# Altium integrated library SumWkshop.IntLib: 10 symbols
Pins are listed as number, name and electrical type; pins without a type are passive.

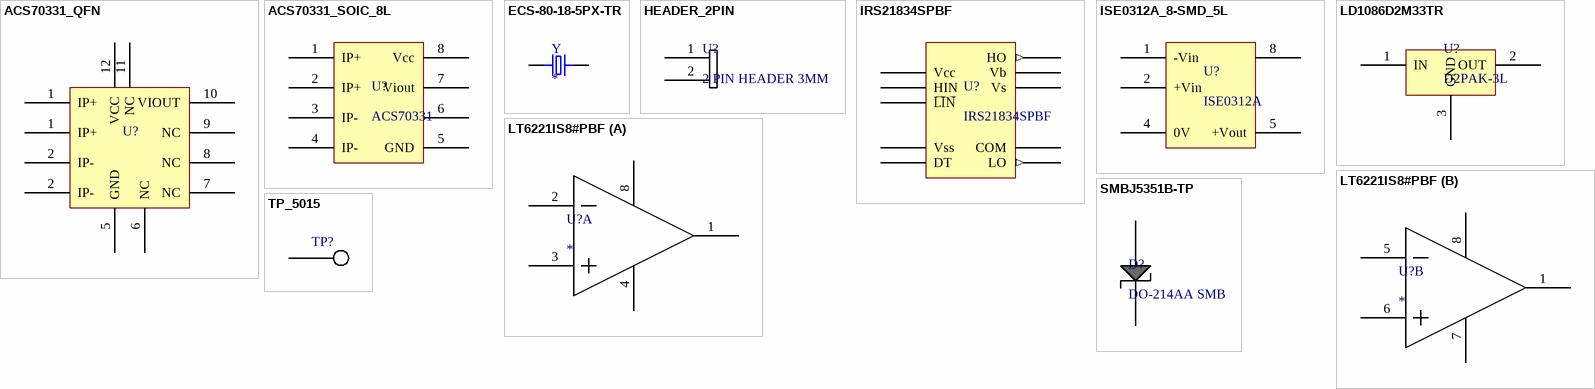
[diagram p0: symbols ACS70331_QFN to TP_5015]

## ACS70331_QFN
designator U?, comment ACS70331EESATR-005U3  (value not drawn)
HIGH SENSITIVITY, 1 MHZ, GMR-BAS
footprint ACS70331_12QFN (HIGH SENSITIVITY, 1 MHZ, GMR-BAS)
pins: 1 IP+, 1 IP+, 2 IP-, 2 IP-, 5 GND, 6 NC, 7 NC, 8 NC, 9 NC, 10 VIOUT, 11 NC, 12 VCC

## ACS70331_SOIC_8L
designator U?, comment ACS70331
HIGH SENSITIVITY, GMR-BASED CURR
footprint ACS70331 (8-SOIC model; 8 leads)
pins: 1 IP+, 2 IP+, 3 IP-, 4 IP-, 5 GND, 6, 7 Viout, 8 Vcc

## ECS-80-18-5PX-TR
designator Y
CRYSTAL 8.0000MHZ 18PF SMD; MP: ECS-80-18-5PX-TR; MF: ECS Inc.; SnapEDA_Link: https://www.snapeda.com/parts/ECS-80-18-5PX-TR/ECS%20Inc./view-part/470513/?ref=snap; Digi-Key_Purchase_URL: https://www.digikey.com/product-detail/en/ecs-inc/ECS-80-18-5PX-TR/XC1271CT-ND/827735?utm_source=snapeda&utm_medium=aggregator&utm_campaign=symbol; Digi-Key_Part_Number: XC1271CT-ND; Value: *; Package: HC49/US ECS International
footprint XTAL_ECS-80-18-5PX-TR
pins: 1, 2

## HEADER_2PIN
designator U?, comment 2 PIN HEADER 3MM
3MM HOLES
footprint 3mm_holes
pins: 1, 2

## IRS21834SPBF
designator U?
IC GATE DRVR HALF-BRIDGE 14SOIC
footprint SOIC127P600X175-14N (SOIC, 14-Leads, Body 8.65x3.90mm, Pitch 1.27mm, IPC Medium Density)
pins: 1 HIN, 2 L̅I̅N̅, 3 Vss (power), 4 DT, 5 COM (power), 6 LO (out), 7 Vcc (power), 11 Vs (power), 12 HO (out), 13 Vb (power)

## ISE0312A_8-SMD_5L
designator U?, comment ISE0312A
DC DC CONVERTER 3.3-12V 1W
footprint ISE0312A (8-SMD model; 5 leads)
pins: 1 -Vin, 2 +Vin, 4 0V, 5 +Vout, 8

## LD1086D2M33TR
designator U?, comment D2PAK-3L
IC REG LINEAR 3.3V 1.5A D2PAK-3
footprint D2PAK-3L
pins: 1 IN, 2 OUT, 3 GND

## LT6221IS8#PBF
designator U?
IC OPAMP GP 2 CIRCUIT 8SO
footprint SOIC8_NARROW
part A pins: 1, 2, 3, 4, 8
part B pins: 1, 5, 6, 7, 8

## SMBJ5351B-TP
designator D?, comment DO-214AA SMB
DIODE ZENER 14V 5W DO214AA
footprint DO-214AA
pins: 1, 2

## TP_5015
designator TP?  (value not drawn)
PC TEST POINT MINIATURE
footprint TP5015
pins: 1